# Altium schematic symbol library TI Operational Amplifier.SchLib: 1 symbol
Pins are listed as number, name and electrical type; pins without a type are passive.

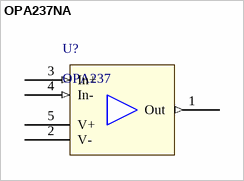
[diagram p0: symbol OPA237NA]

## OPA237NA
designator U?, comment OPA237
Operational Amplifier; Manufacturer: TI; Manufacturer Part Number: OPA237NA/250
footprint SOT23-6 (SOT23, 5-Leads, Body 2.90x2.45mm, Pitch 0.95mm, IPC Medium Density)
pins: 1 Out (out), 2 V- (power), 3 In+ (in), 4 In- (in), 5 V+ (power)